# Altium schematic symbol library JRDFinal.SchLib: 10 symbols
Pins are listed as number, name and electrical type; pins without a type are passive.

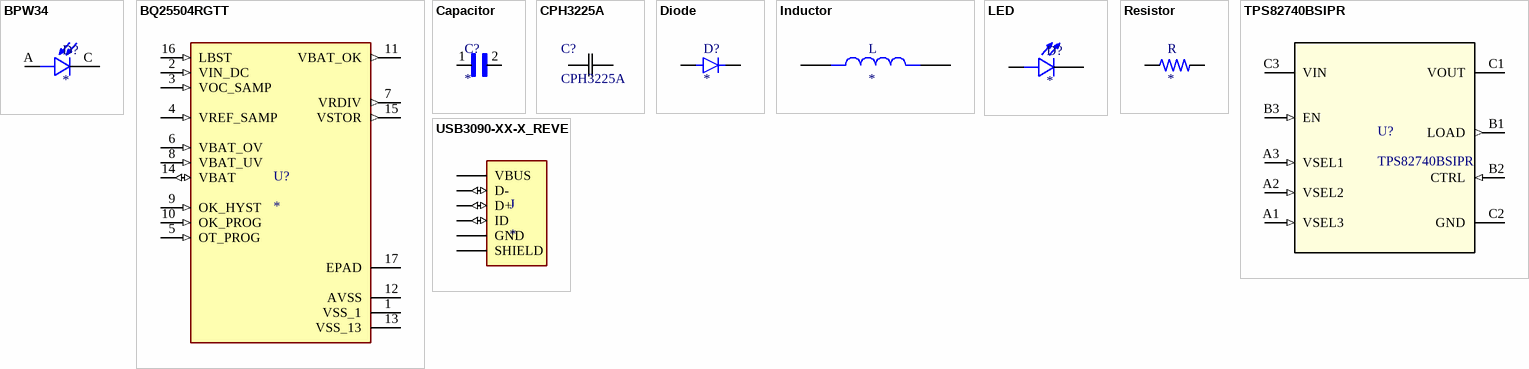
[diagram p0: symbols BPW34 to USB3090-XX-X_REVE]

## BPW34
designator D?
Photodiode 900nm  130Â° 2-DIP (0.200, 5.10mm); MF: Vishay Semiconductors; MP: BPW34; Purchase-URL: https://pricing.snapeda.com/search/part/BPW34/?ref=eda; Value: *; Package: DIP-2 Vishay Semiconductors; Availability: Good; SnapEDA_Link: https://www.snapeda.com/parts/BPW34/Vishay/view-part/4725084/?ref=snap; Check_prices: https://www.snapeda.com/parts/BPW34/Vishay/view-part/4725084/?ref=eda; Price: None
footprint DIO_BPW34
pins: A, C

## BQ25504RGTT
designator U?
Ultra Low Power Boost Converter with Battery Management for Energy Harvester | Nano-Power Management 16-VQFN -40 to 85; MP: BQ25504RGTT; Package: None; Price: None; Value: *; Availability: Unavailable
footprint QFN50P300X300X100-17N
pins: 1 VSS_1 (power), 2 VIN_DC (in), 3 VOC_SAMP (in), 4 VREF_SAMP (in), 5 OT_PROG (in), 6 VBAT_OV (in), 7 VRDIV (out), 8 VBAT_UV (in), 9 OK_HYST (in), 10 OK_PROG (in), 11 VBAT_OK (out), 12 AVSS (power), 13 VSS_13 (power), 14 VBAT (io), 15 VSTOR (out), 16 LBST (in), 17 EPAD (power)

## Capacitor
designator C?
Capacitor; MF: Samsung; MP: CL21A106KAYNNNE; Value: *; Check_prices: https://www.snapeda.com/parts/CL21A106KAYNNNE/Samsung/view-part/3598482/?ref=eda; Package: 0805 Samsung; SnapEDA_Link: https://www.snapeda.com/parts/CL21A106KAYNNNE/Samsung/view-part/3598482/?ref=snap; Digi-Key_Part_Number: 1276-2891-1-ND
footprint LED
pins: 1, 2

## CPH3225A
designator C?
No Description Available; Mfr_Name: Epson; Type: DEV; Copyright: Copyright (C) 2022 Ultra Librarian. All rights reserved.; Manufacturer_Part_Number: CPH3225A; Digi-Key_Part_Number_1: 728-1127-2-ND; Digi-Key_Part_Number_2: 728-1127-1-ND; Digi-Key_Part_Number_3: 728-1127-6-ND; RefDes: RefDes
footprint CAP_CPH3225A_EPS
pins: 1, 2

## Diode
designator D?
Diode Standard 1000V 1A Through Hole DO-204AL _DO-41_; MF: ON Semiconductor; MP: 1N4007; Package: DO-41 Good-Ark; Value: *; Price: None; Availability: Unavailable; SnapEDA_Link: https://www.snapeda.com/parts/1N4007/ON%20Semiconductor/view-part/2816213/?ref=snap
footprint LED
pins: 1 A, 2 C

## Inductor
designator L
Line Inductors for RECOM Power Supply; MP: RLS-186-R; SnapEDA_Link: https://www.snapeda.com/parts/RLS-186-R/Recom%20Power/view-part/3641537/?ref=snap; Availability: Unavailable; MF: Recom Power; Package: Nonstandard Recom Power; Value: *; Price: None
footprint Inductor
pins: 1, 2

## LED
designator D?
Red 623nm LED Indication - Discrete 1.9V Radial; MF: Wurth Electronics; MP: 151054RS03000; Value: *; SnapEDA_Link: https://www.snapeda.com/parts/151054RS03000/Wurth%20Electronics%20Inc./view-part/609365/?ref=snap; Price: None; Availability: Unavailable; Package: Radial WÃ¼rth Elektronik
footprint LED
pins: 1 A, 2 C

## Resistor
designator R
0805; MF: Vishay Dale; MP: PNM0402E5001BST1; Value: *; Digi-Key_Part_Number: 541-1901-1-ND; Package: 0402 Vishay; SnapEDA_Link: https://www.snapeda.com/parts/PNM0402E5001BST1/Vishay%20Dale/view-part/103724/?ref=snap
footprint LED
pins: 1, 2

## TPS82740BSIPR
designator U?
No Description Available; Mfr_Name: Texas Instruments; Type: DEV; RefDes: RefDes; Copyright: Copyright (C) 2022 Ultra Librarian. All rights reserved.; Manufacturer_Part_Number: TPS82740BSIPR; Digi-Key_Part_Number_1: 296-46481-1-ND; Digi-Key_Part_Number_2: 296-46481-2-ND; Digi-Key_Part_Number_3: 296-46481-6-ND; Digi-Key_Part_Number_4: TPS82740BSIPR-ND
footprint SIP0009F
pins: A1 VSEL3 (in), A2 VSEL2 (in), A3 VSEL1 (in), B1 LOAD (out), B2 CTRL (in), B3 EN (in), C1 VOUT (power), C2 GND (power), C3 VIN (power)

## USB3090-XX-X_REVE
designator J
USB - micro AB USB 2.0 Receptacle Connector 5 Position Surface Mount, Right Angle; Through Hole; MP: USB3090-30-A; MF: Global Connector Technology; SnapEDA_Link: https://www.snapeda.com/parts/USB3090-30-A/Global%20Connector%20Technology/view-part/281875/?ref=snap; Price: None; Availability: Unavailable; Value: *; Package: None
footprint GCT_USB3090-XX-X_REVE
pins: 1 VBUS (power), 2 D- (io), 3 D+ (io), 4 ID (io), 5 GND (power), 7 SHIELD (power)